# EAGLE library part HCMS-290X (library custom-devices)
Alphanumeric Display
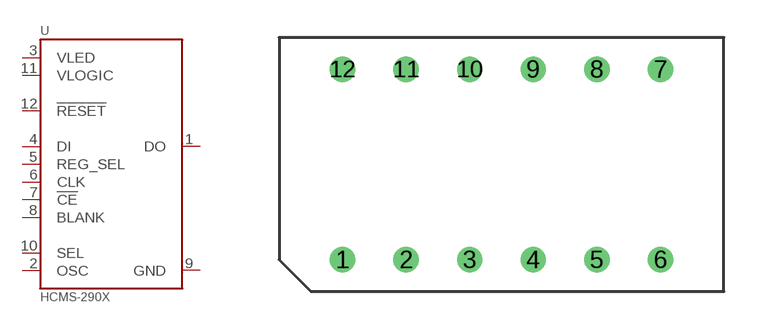
[diagram p0: symbol with the pads of HCMS-290X; footprint HCMS-290X]

Designator prefix U

## HCMS-290X (MOUSER: 630-HCMS-2903)  [HCMS-290X]
1  DO
2  OSC
3  VLED
4  DI
5  REG_SEL
6  CLK
7  !CE
8  BLANK
9  GND
10  SEL
11  VLOGIC
12  !RESET

## Footprint HCMS-290X (pad centres in mm)
drill 0.508: 1 -6.35,-3.81; 2 -3.81,-3.81; 3 -1.27,-3.81; 4 1.27,-3.81; 5 3.81,-3.81; 6 6.35,-3.81; 7 6.35,3.81; 8 3.81,3.81; 9 1.27,3.81; 10 -1.27,3.81; 11 -3.81,3.81; 12 -6.35,3.81